# EAGLE library part EG1271A (library EG1271A)
SLIDE, 300mA, 30VDC SPDT, On-On Through Hole Source: Datasheet <https://configured-product-images.s3.amazonaws.com/2D/specs/EG1271A.pdf>
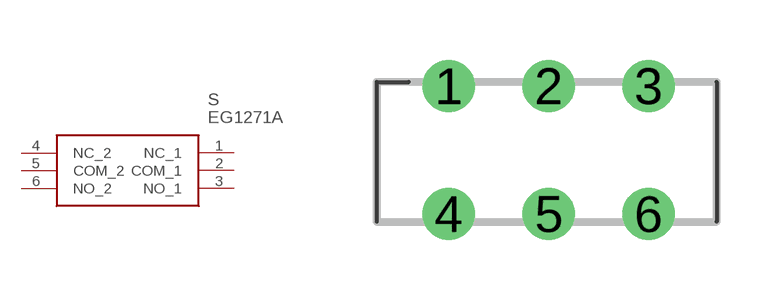
[diagram p0: symbol with the pads of EG1271; footprint EG1271]

Designator prefix S

## EG1271A (Description: SLIDE, 300mA, 30VDC SPDT, On-On Through Hole; Height: mm; Manufacturer_Name: E-Switch; Manufacturer_Part_Number: EG1271A; Mouser_Part_Number: 612-EG1271A; Mouser_Price-Stock: https://www.mouser.co.uk/ProductDetail/E-Switch/EG1271A?qs=YXf4ACKMM4zsVCD8YMVB7w%3D%3D)  [EG1271]
1  NC_1
2  COM_1
3  NO_1
4  NC_2
5  COM_2
6  NO_2

## Footprint EG1271 (pad centres in mm)
EG1271 SLIDE SWITCH
drill 0.8 pad 1.3: 1 0,0; 2 2.5,0; 3 5,0; 4 0,-3.2; 5 2.5,-3.2; 6 5,-3.2